# Altium footprint library BCD_Clock_PCB_Lib.PcbLib: 24 footprints (part 2 of 2)
Each footprint in its own frame and in the unit in brackets; x right, y up, seen from the top. Pads: shape width x height; smd on the part's side, far side on the other; paste and mask are expansions set on the pad; w line width, h text height; cw(c..) or ccw(c..) is an arc to the next point about the centre after c.
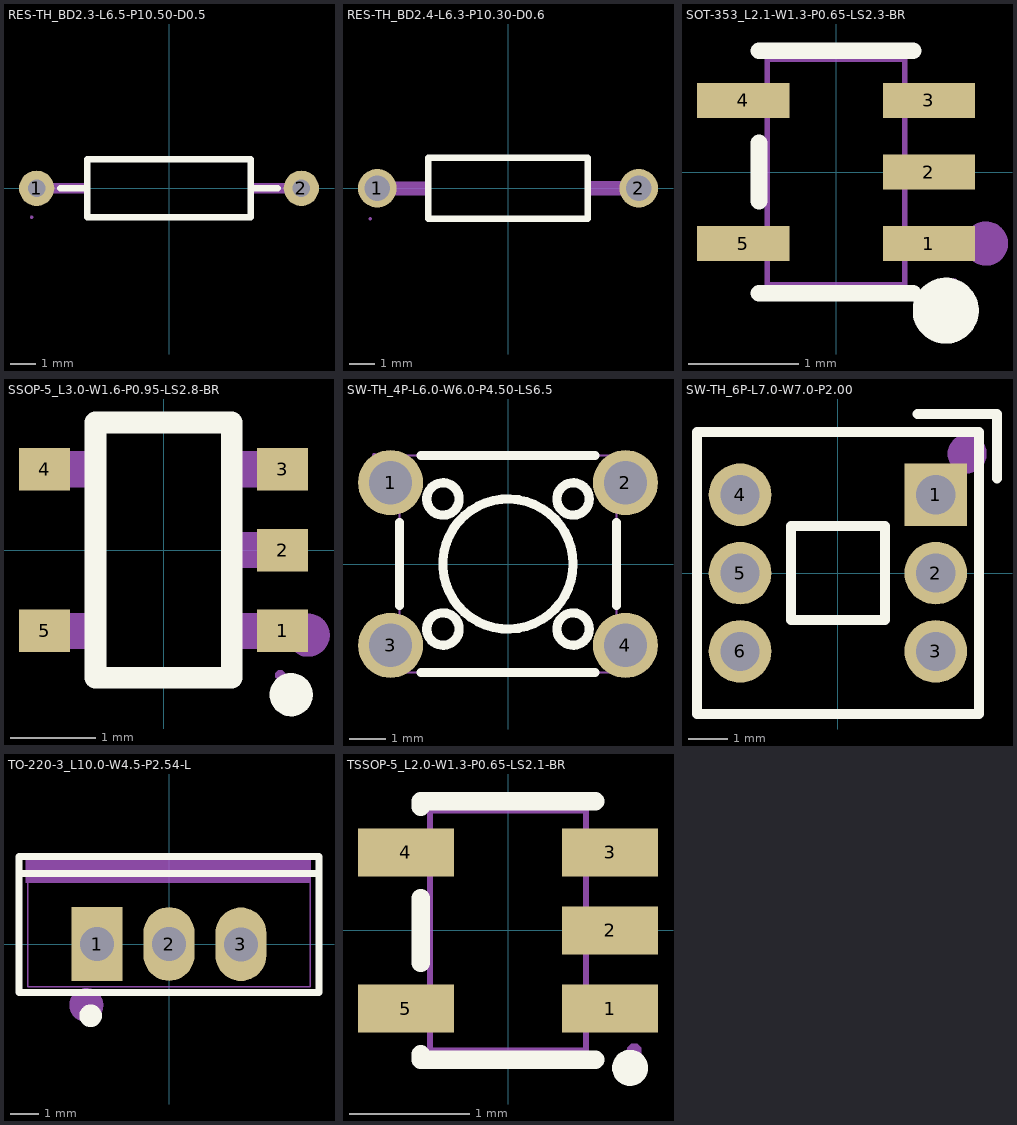
[diagram p1: the footprints below, top view; thin cyan lines are the x and y axes]

## RES-TH_BD2.3-L6.5-P10.50-D0.5 [mm]
pads (2):
  round 1.4 hole 0.7: 1(-5.25,0) 2(5.25,0)
Top Overlay:
  lines w0.254: -4.319,0 -3.25,0 ; 3.25,-1.15 -3.25,-1.15 -3.25,1.15 3.25,1.15 ; 3.25,-1.12 3.25,1.12 ; 3.25,-0.004 4.319,-0.004
Mechanical 15:
  region: 5.45,0.2 5.45,-0.2 3.24,-0.2 3.24,0.2
  region: -5.45,-0.2 -5.45,0.2 -3.24,0.2 -3.24,-0.2
  region: 5.45,0 5.45,0.04 5.42,0.113 5.363,0.17 5.29,0.2 5.21,0.2 5.137,0.17 5.08,0.113 5.05,0.04 5.05,0 5.05,-0.04 5.08,-0.113 5.137,-0.17 5.21,-0.2 5.29,-0.2 5.363,-0.17 5.42,-0.113 5.45,-0.04
  region: -5.05,0 -5.05,0.04 -5.08,0.113 -5.137,0.17 -5.21,0.2 -5.29,0.2 -5.363,0.17 -5.42,0.113 -5.45,0.04 -5.45,0 -5.45,-0.04 -5.42,-0.113 -5.363,-0.17 -5.29,-0.2 -5.21,-0.2 -5.137,-0.17 -5.08,-0.113 -5.05,-0.04
  region: -5.39,-1.15 -5.391,-1.126 -5.426,-1.092 -5.474,-1.092 -5.509,-1.126 -5.51,-1.15 -5.509,-1.174 -5.474,-1.208 -5.426,-1.208 -5.391,-1.174
  lines w0.051: -3.25,-1.15 -3.25,1.15 3.25,1.15 3.25,-1.15 -3.25,-1.15
3D body "Resistor TH horizontal 10,16.stp": height 2.51, standoff -2, extent -5.255,-1.287 5.255,1.016

## RES-TH_BD2.4-L6.3-P10.30-D0.6 [mm]
pads (2):
  round 1.524 hole 1: 1(-5.15,0) 2(5.15,0)
Top Overlay:
  lines w0.254: -3.15,-1.2 -3.15,1.2 3.15,1.2 3.15,-1.2 -3.15,-1.2
Mechanical 15:
  region: 3.098,0.282 5.428,0.268 5.428,-0.282 3.092,-0.266
  region: -5.42,0.275 -3.09,0.26 -3.09,-0.29 -5.425,-0.274
  region: -4.875,0 -4.876,0.054 -4.919,0.153 -4.996,0.229 -5.096,0.27 -5.204,0.27 -5.304,0.229 -5.381,0.153 -5.424,0.054 -5.425,0 -5.424,-0.054 -5.381,-0.153 -5.304,-0.229 -5.204,-0.27 -5.096,-0.27 -4.996,-0.229 -4.919,-0.153 -4.876,-0.054
  region: 5.425,0 5.424,0.054 5.381,0.153 5.304,0.229 5.204,0.27 5.096,0.27 4.996,0.229 4.919,0.153 4.876,0.054 4.875,0 4.876,-0.054 4.919,-0.153 4.996,-0.229 5.096,-0.27 5.204,-0.27 5.304,-0.229 5.381,-0.153 5.424,-0.054
  region: -5.365,-1.2 -5.366,-1.175 -5.401,-1.141 -5.45,-1.141 -5.485,-1.175 -5.485,-1.2 -5.485,-1.224 -5.45,-1.259 -5.401,-1.259 -5.366,-1.224
  lines w0.051: -3.15,-1.2 3.15,-1.2 3.15,1.2 -3.15,1.2 -3.15,-1.2
3D body "Resistor TH horizontal 10,16.stp": height 2.51, standoff -2, extent -5.255,-1.287 5.255,1.016

## SOT-353_L2.1-W1.3-P0.65-LS2.3-BR [mm]
pads (5):
  rect 0.839x0.315 smd: 1(0.844,-0.65) 2(0.844,0) 3(0.844,0.65) 4(-0.844,0.65) 5(-0.844,-0.65)
Top Overlay:
  circle w0.3: c0.997,-1.26 r0.15
  lines w0.152: -0.701,-1.101 0.701,-1.101 ; -0.701,-0.264 -0.701,0.264 ; -0.701,1.101 0.701,1.101
Mechanical 6:
  circle w0.2: c1.362,-0.65 r0.1
Mechanical 15:
  region: 1.122,-1.025 1.121,-1.001 1.087,-0.968 1.039,-0.968 1.004,-1.001 1.003,-1.025 1.004,-1.049 1.038,-1.082 1.087,-1.082 1.121,-1.049
  region: 0.728,-0.763 0.728,-0.537 1.063,-0.537 1.063,-0.763
  region: 0.615,-0.763 0.615,-0.537 0.737,-0.537 0.737,-0.763
  region: 0.728,-0.112 0.728,0.112 1.063,0.112 1.063,-0.112
  region: 0.615,-0.112 0.615,0.112 0.737,0.112 0.737,-0.112
  region: 0.728,0.537 0.728,0.763 1.063,0.763 1.063,0.537
  region: 0.615,0.537 0.615,0.763 0.737,0.763 0.737,0.537
  region: -0.728,0.537 -0.728,0.763 -1.063,0.763 -1.063,0.537
  region: -0.737,0.537 -0.737,0.763 -0.615,0.763 -0.615,0.537
  region: -0.728,-0.763 -0.728,-0.537 -1.063,-0.537 -1.063,-0.763
  region: -0.737,-0.763 -0.737,-0.537 -0.615,-0.537 -0.615,-0.763
  lines w0.051: -0.625,-1.025 -0.625,1.025 0.625,1.025 0.625,-1.025 -0.625,-1.025

## SSOP-5_L3.0-W1.6-P0.95-LS2.8-BR [mm]
pads (5):
  rect 0.6x0.5 smd: 1(1.4,-0.95) 2(1.4,0) 3(1.4,0.95) 4(-1.4,0.95) 5(-1.4,-0.95)
Top Overlay:
  circle w0.254: c1.5,-1.7 r0.127
  lines w0.254: -0.8,-1.5 0.8,-1.5 0.8,1.5 -0.8,1.5 -0.8,-1.5
Mechanical 6:
  circle w0.254: c1.7,-1 r0.127
Mechanical 15:
  region: 1.43,-1.47 1.43,-1.445 1.395,-1.41 1.345,-1.41 1.31,-1.445 1.31,-1.47 1.31,-1.495 1.345,-1.53 1.395,-1.53 1.43,-1.495
  region: 0.79,0.74 0.79,1.16 1.21,1.16 1.21,0.74
  region: 1.2,0.74 1.2,1.16 1.4,1.16 1.4,0.74
  region: 0.79,-0.21 0.79,0.21 1.21,0.21 1.21,-0.21
  region: 1.2,-0.21 1.2,0.21 1.4,0.21 1.4,-0.21
  region: 0.79,-1.16 0.79,-0.74 1.21,-0.74 1.21,-1.16
  region: 1.2,-1.16 1.2,-0.74 1.4,-0.74 1.4,-1.16
  region: -1.21,-1.16 -1.21,-0.74 -0.79,-0.74 -0.79,-1.16
  region: -1.4,-1.16 -1.4,-0.74 -1.2,-0.74 -1.2,-1.16
  region: -1.21,0.74 -1.21,1.16 -0.79,1.16 -0.79,0.74
  region: -1.4,0.74 -1.4,1.16 -1.2,1.16 -1.2,0.74
  lines w0.051: -0.8,-1.5 0.8,-1.5 0.8,1.5 -0.8,1.5 -0.8,-1.5

## SW-TH_4P-L6.0-W6.0-P4.50-LS6.5 [mm]
pads (4):
  round 1.8 hole 1.2: 1(-3.25,2.25) 2(3.25,2.25) 3(-3.25,-2.25) 4(3.25,-2.25)
Top Overlay:
  circle w0.254: c0,0 r1.8
  circle w0.254: c1.8,1.8 r0.447
  circle w0.254: c-1.8,1.8 r0.447
  circle w0.254: c-1.8,-1.8 r0.447
  circle w0.254: c1.8,-1.8 r0.447
  lines w0.254: -3,-1.147 -3,1.147 ; -2.404,-3 2.404,-3 ; -2.404,3 2.404,3 ; 3,-1.147 3,1.147
Mechanical 15:
  region: -3.64,3 -3.64,3.025 -3.675,3.06 -3.725,3.06 -3.76,3.025 -3.76,3 -3.76,2.975 -3.725,2.94 -3.675,2.94 -3.64,2.975
  region: -2.9,-1.9 -2.9,-2.6 -3.7,-2.6 -3.7,-1.9
  region: -2.9,2.6 -2.9,1.9 -3.7,1.9 -3.7,2.6
  region: 2.9,1.9 2.9,2.6 3.7,2.6 3.7,1.9
  region: 2.9,-2.6 2.9,-1.9 3.7,-1.9 3.7,-2.6
  region: -3.4,-1.9 -3.1,-1.9 -3.1,-2.6 -3.4,-2.6
  region: -3.4,2.6 -3.1,2.6 -3.1,1.9 -3.4,1.9
  region: 3.1,2.6 3.4,2.6 3.4,1.9 3.1,1.9
  region: 3.1,-1.9 3.4,-1.9 3.4,-2.6 3.1,-2.6
  lines w0.051: -3,-3 3,-3 3,3 -3,3 -3,-3
3D body "Buttton_TS6-THT_H-4.3.step": height 4.55, standoff -3.25, extent -3.949,-3 3.949,3

## SW-TH_6P-L7.0-W7.0-P2.00 [mm]
pads (6):
  rect 1.6x1.6 hole 1: 1(2.5,2)
  round 1.6 hole 1: 2(2.5,0) 3(2.5,-2) 4(-2.5,2) 5(-2.5,0) 6(-2.5,-2)
Top Overlay:
  lines w0.254: 2.032,4.064 4.064,4.064 4.064,2.413 ; -3.6,-3.6 -3.6,3.6 3.6,3.6 3.6,-3.6 -3.6,-3.6 ; -1.2,-1.2 -1.2,1.2 1.2,1.2 1.2,-1.2 -1.2,-1.2
Mechanical 6:
  circle w0.5: c3.302,3.048 r0.25
Mechanical 15:
  region: 2.65,2.3 2.65,1.7 2.35,1.7 2.35,2.3
  region: 2.65,0.3 2.65,-0.3 2.35,-0.3 2.35,0.3
  region: 2.65,-1.7 2.65,-2.3 2.35,-2.3 2.35,-1.7
  region: -2.35,-1.7 -2.35,-2.3 -2.65,-2.3 -2.65,-1.7
  region: -2.35,0.3 -2.35,-0.3 -2.65,-0.3 -2.65,0.3
  region: -2.35,2.3 -2.35,1.7 -2.65,1.7 -2.65,2.3
  region: 3.56,3.5 3.559,3.525 3.524,3.559 3.476,3.559 3.441,3.525 3.44,3.5 3.441,3.476 3.476,3.441 3.524,3.441 3.559,3.476
  lines w0.051: -3.5,-3.5 3.5,-3.5 3.5,3.5 -3.5,3.5 -3.5,-3.5

## TO-220-3_L10.0-W4.5-P2.54-L [mm]
pads (3):
  rect 1.8x2.6 hole 1.2: 1(-2.54,0.005)
  oval 1.8x2.6 hole 1.2: 2(0,0.005)
  oval 1.8x2.6 hole 1.2 copper offset 0,0: 3(2.54,-0.005)
Top Overlay:
  lines w0.254: -5.3,2.495 5.3,2.495 ; -5.301,-1.704 -5.301,3.089 -5.301,3.094 5.301,3.094 5.301,-1.704 -5.301,-1.704
  lines w0.4: -2.77,-2.33 ccw(c-2.769,-2.53) -2.769,-2.73 ccw(c-2.769,-2.53) -2.768,-2.33
Mechanical 6:
  circle w0.6: c-2.921,-2.154 r0.3
  region: -5.06,3.01 -5.06,2.17 4.99,2.17 4.99,3.01
Mechanical 15:
  region: 2.19,-0.33 2.19,0.32 2.89,0.32 2.89,-0.33
  region: -0.35,-0.32 -0.35,0.33 0.35,0.33 0.35,-0.32
  region: -2.89,-0.32 -2.89,0.33 -2.19,0.33 -2.19,-0.32
  region: -4.94,3 -4.94,3.025 -4.975,3.06 -5.025,3.06 -5.06,3.025 -5.06,3 -5.06,2.975 -5.025,2.94 -4.975,2.94 -4.94,2.975
  lines w0.051: -5,-1.5 5,-1.5 5,3 -5,3 -5,-1.5
3D body "L7805C-V.STEP": height 19.68, standoff -9.22, extent -5.1,-1.488 5.1,3.012

## TSSOP-5_L2.0-W1.3-P0.65-LS2.1-BR [mm]
pads (5):
  rect 0.798x0.4 smd: 1(0.849,-0.65) 2(0.849,0) 3(0.849,0.65) 4(-0.849,0.65) 5(-0.849,-0.65)
Top Overlay:
  circle w0.15: c1.016,-1.143 r0.075
  lines w0.152: -0.726,-1.03 -0.726,-1.076 0.726,-1.076 ; -0.726,-0.27 -0.726,0.27 ; -0.726,1.03 -0.726,1.076 0.726,1.076
Mechanical 6:
  circle w0.15: c0.889,-0.635 r0.075
Mechanical 15:
  region: 1.11,-1 1.109,-0.976 1.074,-0.942 1.026,-0.942 0.991,-0.976 0.99,-1 0.991,-1.024 1.026,-1.058 1.074,-1.058 1.109,-1.024
  region: 0.64,-0.75 0.64,-0.55 0.76,-0.55 0.76,-0.75
  region: 0.75,-0.75 0.75,-0.55 1.05,-0.55 1.05,-0.75
  region: 0.64,-0.1 0.64,0.1 0.76,0.1 0.76,-0.1
  region: 0.75,-0.1 0.75,0.1 1.05,0.1 1.05,-0.1
  region: 0.64,0.55 0.64,0.75 0.76,0.75 0.76,0.55
  region: 0.75,0.55 0.75,0.75 1.05,0.75 1.05,0.55
  region: -0.76,0.55 -0.76,0.75 -0.64,0.75 -0.64,0.55
  region: -1.05,0.55 -1.05,0.75 -0.75,0.75 -0.75,0.55
  region: -0.76,-0.75 -0.76,-0.55 -0.64,-0.55 -0.64,-0.75
  region: -1.05,-0.75 -1.05,-0.55 -0.75,-0.55 -0.75,-0.75
  lines w0.051: -0.65,-1 -0.65,1 0.65,1 0.65,-1 -0.65,-1